# Altium integrated library Analog Devices Data Converters Analog-to-Digital Converters.IntLib: 2404 symbols (part 302 of 346)
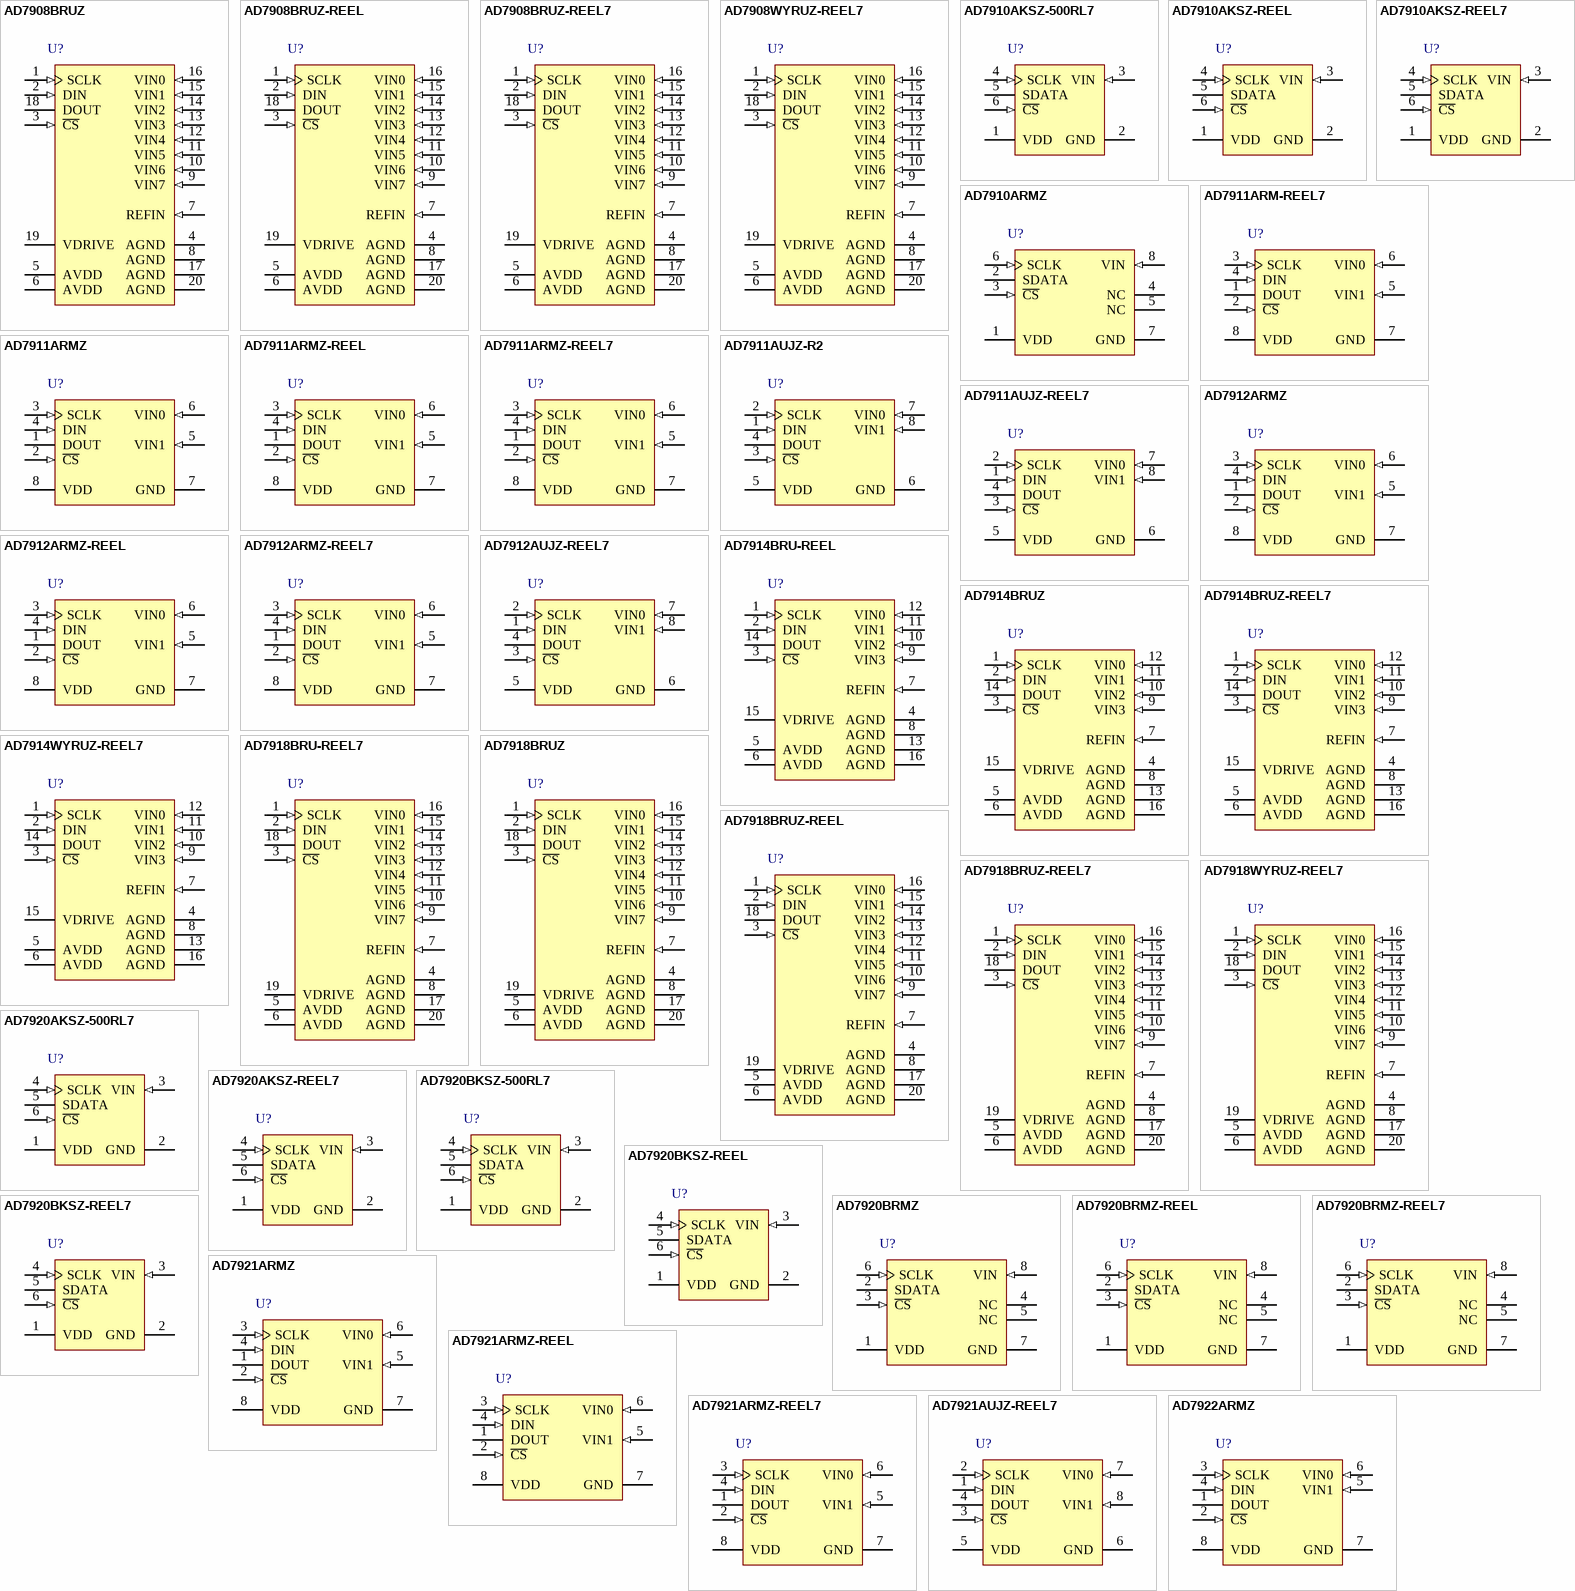
[diagram p416: symbols AD7908BRUZ to AD7922ARMZ]

## AD7908WYRUZ-REEL7
designator U?
Octal 8-Bit Analog-to-Digital Converter with Serial, SPI Interface and Sequencer, 1MSPS, -40 to +125 degC, RU-20, Pb-Free, Reel; Generic Part Number: AD7908; Manufacturer: Analog Devices; PartNumber: AD7908WYRUZ-REEL7; Resolution (Bits): 8; Throughput Rate (SPS): 1M; Interface: Ser, SPI; Automotive Qualified: Yes; DatasheetVersion: Rev.D; PackageVersion: 2000; PackageReference: RU-20; PackageDescription: 20-Lead Thin Shrink Small Outline Package [TSSOP]; Supplier 1: Digi-Key; Supplier Part Number 1: AD7908WYRUZ-REEL7TR-ND; Supplier 2: Digi-Key; Supplier Part Number 2: AD7908WYRUZ-REEL7CT-ND; Supplier 3: Digi-Key; Supplier Part Number 3: AD7908WYRUZ-REEL7DKR-ND; Supplier 4: Mouser; Supplier Part Number 4: 584-AD7908WYRUZ-R7; Channels: 8; RoHS: Y; Packing: Reel; Mounting Technology: Surface Mount; Code_JEDEC: MO-153AC; ComponentLink1Description: Manufacturer URL; ComponentLink1URL: http://www.analog.com/en/index.html; ComponentLink2Description: Datasheet; ComponentLink2URL: http://www.analog.com/static/imported-files/data_sheets/AD7908_7918_7928.pdf; ComponentLink3Description: Package Specification; ComponentLink3URL: http://www.analog.com/static/imported-files/packages/364515793657813558433715854054607941441RU20.pdf; ComponentLink4Description: Product URL; ComponentLink4URL: http://www.analog.com/en/analog-to-digital-converters/ad-converters/ad7908/products/product.html
footprint RU-20_N (TSOP, 20-Leads, Body 6.5x4.4mm, Pitch 0.65mm, IPC Medium Density)
footprint RU-20_L (TSOP, 20-Leads, Body 6.5x4.4mm, Pitch 0.65mm, IPC High Density)
footprint RU-20_M (TSOP, 20-Leads, Body 6.5x4.4mm, Pitch 0.65mm, IPC Low Density)
pins: 1 SCLK (in) "Serial Clock. Logic input. SCLK provides the serial clock for accessing data from the part. This clock input is also used as the clock source for the conversion process of the AD7908/AD7918/AD7928.", 2 DIN (in) "Data In. Logic input. Data to be written to the control register of the  AD7908/AD7918/AD7928 is provided on this input and is clocked into the register on the falling edge of SCLK (see the Control Register section).", 3 ~{CS} (in) "Chip Select. Active low logic input. This input provides the dual function of initiating conversions on the AD7908/AD7918/AD7928, and also frames the serial data transfer.", 4 AGND (power) "Analog Ground. This is the ground reference point for all analog circuitry on the AD7908/AD7918/AD7928. All analog input signals and any external reference signal should be referred to this AGND voltage. All AGND pins should (See Datasheet)", 5 AVDD (power) "Analog Power Supply Input. The AVDD range for the AD7908/AD7918/AD7928 is from 2.7 V to 5.25 V. For the 0 V to 2 x REFIN range, AVDD should be from 4.75 V to 5.25 V.", 6 AVDD (power) "Analog Power Supply Input. The AVDD range for the AD7908/AD7918/AD7928 is from 2.7 V to 5.25 V. For the 0 V to 2 x REFIN range, AVDD should be from 4.75 V to 5.25 V.", 7 REFIN (in) "Reference Input for the AD7908/AD7918/AD7928. An external reference must be applied to this input. The voltage range for the external reference is 2.5 V +/- 1% for specified performance.", 8 AGND (power) "Analog Ground. This is the ground reference point for all analog circuitry on the AD7908/AD7918/AD7928. All analog input signals and any external reference signal should be referred to this AGND voltage. All AGND pins should (See Datasheet)", 9 VIN7 (in) "Analog Input 7. These are eight single-ended analog input channels that are multiplexed into the on-chip track-and-hold. The analog input channel to be converted is selected by using Address Bit ADD2 through Address Bit ADD0 (See Datasheet)", 10 VIN6 (in) "Analog Input 6. These are eight single-ended analog input channels that are multiplexed into the on-chip track-and-hold. The analog input channel to be converted is selected by using Address Bit ADD2 through Address Bit ADD0 (See Datasheet)", 11 VIN5 (in) "Analog Input 5. These are eight single-ended analog input channels that are multiplexed into the on-chip track-and-hold. The analog input channel to be converted is selected by using Address Bit ADD2 through Address Bit ADD0 (See Datasheet)", 12 VIN4 (in) "Analog Input 4. These are eight single-ended analog input channels that are multiplexed into the on-chip track-and-hold. The analog input channel to be converted is selected by using Address Bit ADD2 through Address Bit ADD0 (See Datasheet)", 13 VIN3 (in) "Analog Input 3. These are eight single-ended analog input channels that are multiplexed into the on-chip track-and-hold. The analog input channel to be converted is selected by using Address Bit ADD2 through Address Bit ADD0 (See Datasheet)", 14 VIN2 (in) "Analog Input 2. These are eight single-ended analog input channels that are multiplexed into the on-chip track-and-hold. The analog input channel to be converted is selected by using Address Bit ADD2 through Address Bit ADD0 (See Datasheet)", 15 VIN1 (in) "Analog Input 1. These are eight single-ended analog input channels that are multiplexed into the on-chip track-and-hold. The analog input channel to be converted is selected by using Address Bit ADD2 through Address Bit ADD0 (See Datasheet)", 16 VIN0 (in) "Analog Input 0. These are eight single-ended analog input channels that are multiplexed into the on-chip track-and-hold. The analog input channel to be converted is selected by using Address Bit ADD2 through Address Bit ADD0 (See Datasheet)", 17 AGND (power) "Analog Ground. This is the ground reference point for all analog circuitry on the AD7908/AD7918/AD7928. All analog input signals and any external reference signal should be referred to this AGND voltage. All AGND pins should (See Datasheet)", 18 DOUT (hiz) "Data Out. Logic output. The conversion result from the AD7908/AD7918/AD7928 is provided on this output as a serial data stream. The bits are clocked out on the falling edge of the SCLK input. The data stream from the AD7908 (See Datasheet)", 19 VDRIVE (power) "Logic Power Supply Input. The voltage supplied at this pin determines at what voltage the serial interface of the AD7908/AD7918/AD7928 operates.", 20 AGND (power) "Analog Ground. This is the ground reference point for all analog circuitry on the AD7908/AD7918/AD7928. All analog input signals and any external reference signal should be referred to this AGND voltage. All AGND pins should (See Datasheet)"

## AD7910AKSZ-500RL7
designator U?
Single 10-Bit Analog-to-Digital Converter with Serial, SPI Interface, 250KSPS, -40 to +85 degC, KS6, Pb-Free, Reel; Generic Part Number: AD7910; Manufacturer: Analog Devices; PartNumber: AD7910AKSZ-500RL7; Resolution (Bits): 10; Channels: 1; Throughput Rate (SPS): 250K; Interface: Ser, SPI; DatasheetVersion: Rev.C; PackageVersion: 072809-A; PackageReference: KS-6; PackageDescription: 6-Lead Thin Shrink Small Outline Transistor Package [SC70]; Supplier 1: Digi-Key; Supplier Part Number 1: AD7910AKSZ-500RL7TR-ND; Supplier 2: Digi-Key; Supplier Part Number 2: AD7910AKSZ-500RL7CT-ND; Supplier 3: Digi-Key; Supplier Part Number 3: AD7910AKSZ-500RL7DKR-ND; Supplier 4: Mouser; Supplier Part Number 4: 584-AD7910AKSZ-500R7; RoHS: Y; Packing: Reel; Mounting Technology: Surface Mount; Code_JEDEC: MO-203-AB; ComponentLink1Description: Manufacturer URL; ComponentLink1URL: http://www.analog.com/en/index.html; ComponentLink2Description: Datasheet; ComponentLink2URL: http://www.analog.com/static/imported-files/data_sheets/AD7910_7920.pdf; ComponentLink3Description: Package Specification; ComponentLink3URL: http://www.analog.com/static/imported-files/packages/PKG_PDF/SC70(KS)/KS_6.pdf; ComponentLink4Description: Product URL; ComponentLink4URL: http://www.analog.com/en/analog-to-digital-converters/ad-converters/ad7910/products/product.html
footprint KS-6_N (SOT23, 6-Leads, Body 2x1.3mm, Pitch 0.65mm, Lead Span 2.1mm, IPC Medium Density)
footprint KS-6_L (SOT23, 6-Leads, Body 2x1.3mm, Pitch 0.65mm, Lead Span 2.1mm, IPC High Density)
footprint KS-6_M (SOT23, 6-Leads, Body 2x1.3mm, Pitch 0.65mm, Lead Span 2.1mm, IPC Low Density)
pins: 1 VDD (power) "Power Supply Input. The VDD range for the AD7910/AD7920 is from 2.35 V to 5.25 V.", 2 GND (power) "Analog Ground. Ground reference point for all circuitry on the AD7910/AD7920. All analog input signals should be referred to this GND voltage.", 3 VIN (in) "Analog Input. Single-ended analog input channel. The input range is 0 to VDD.", 4 SCLK (in) "Serial Clock. Logic input. SCLK provides the serial clock for accessing data from the part. This clock input is also used as the clock source for the AD7910/AD7920 conversion process.", 5 SDATA (hiz) "Data Out. Logic output. The conversion result from the AD7910/AD7920 is provided on this output as a serial data stream. The bits are clocked out on the falling edge of the SCLK input. The data stream from the AD7920 (See Datasheet)", 6 ~{CS} (in) "Chip Select. Active low logic input. This input provides the dual function of initiating conversions on the AD7910/AD7920 and framing the serial data transfer."

## AD7910AKSZ-REEL
designator U?
Single 10-Bit Analog-to-Digital Converter with Serial, SPI Interface, 250KSPS, -40 to +85 degC, KS6, Pb-Free, Reel; Generic Part Number: AD7910; Manufacturer: Analog Devices; PartNumber: AD7910AKSZ-REEL; Resolution (Bits): 10; Channels: 1; Throughput Rate (SPS): 250K; Interface: Ser, SPI; DatasheetVersion: Rev.C; PackageVersion: 072809-A; PackageReference: KS-6; PackageDescription: 6-Lead Thin Shrink Small Outline Transistor Package [SC70]; Supplier 1: Digi-Key; Supplier Part Number 1: AD7910AKSZ-REEL-ND; Supplier 2: Mouser; Supplier Part Number 2: 584-AD7910AKSZ-R; RoHS: Y; Packing: Reel; Mounting Technology: Surface Mount; Code_JEDEC: MO-203-AB; ComponentLink1Description: Manufacturer URL; ComponentLink1URL: http://www.analog.com/en/index.html; ComponentLink2Description: Datasheet; ComponentLink2URL: http://www.analog.com/static/imported-files/data_sheets/AD7910_7920.pdf; ComponentLink3Description: Package Specification; ComponentLink3URL: http://www.analog.com/static/imported-files/packages/PKG_PDF/SC70(KS)/KS_6.pdf; ComponentLink4Description: Product URL; ComponentLink4URL: http://www.analog.com/en/analog-to-digital-converters/ad-converters/ad7910/products/product.html
footprint KS-6_N (SOT23, 6-Leads, Body 2x1.3mm, Pitch 0.65mm, Lead Span 2.1mm, IPC Medium Density)
footprint KS-6_L (SOT23, 6-Leads, Body 2x1.3mm, Pitch 0.65mm, Lead Span 2.1mm, IPC High Density)
footprint KS-6_M (SOT23, 6-Leads, Body 2x1.3mm, Pitch 0.65mm, Lead Span 2.1mm, IPC Low Density)
pins: 1 VDD (power) "Power Supply Input. The VDD range for the AD7910/AD7920 is from 2.35 V to 5.25 V.", 2 GND (power) "Analog Ground. Ground reference point for all circuitry on the AD7910/AD7920. All analog input signals should be referred to this GND voltage.", 3 VIN (in) "Analog Input. Single-ended analog input channel. The input range is 0 to VDD.", 4 SCLK (in) "Serial Clock. Logic input. SCLK provides the serial clock for accessing data from the part. This clock input is also used as the clock source for the AD7910/AD7920 conversion process.", 5 SDATA (hiz) "Data Out. Logic output. The conversion result from the AD7910/AD7920 is provided on this output as a serial data stream. The bits are clocked out on the falling edge of the SCLK input. The data stream from the AD7920 (See Datasheet)", 6 ~{CS} (in) "Chip Select. Active low logic input. This input provides the dual function of initiating conversions on the AD7910/AD7920 and framing the serial data transfer."

## AD7910AKSZ-REEL7
designator U?
Single 10-Bit Analog-to-Digital Converter with Serial, SPI Interface, 250KSPS, -40 to +85 degC, KS6, Pb-Free, Reel; Generic Part Number: AD7910; Manufacturer: Analog Devices; PartNumber: AD7910AKSZ-REEL7; Resolution (Bits): 10; Channels: 1; Throughput Rate (SPS): 250K; Interface: Ser, SPI; DatasheetVersion: Rev.C; PackageVersion: 072809-A; PackageReference: KS-6; PackageDescription: 6-Lead Thin Shrink Small Outline Transistor Package [SC70]; Supplier 1: Digi-Key; Supplier Part Number 1: AD7910AKSZ-REEL7TR-ND; Supplier 2: Digi-Key; Supplier Part Number 2: AD7910AKSZ-REEL7CT-ND; Supplier 3: Digi-Key; Supplier Part Number 3: AD7910AKSZ-REEL7DKR-ND; Supplier 4: Mouser; Supplier Part Number 4: 584-AD7910AKSZ-R7; RoHS: Y; Packing: Reel; Mounting Technology: Surface Mount; Code_JEDEC: MO-203-AB; ComponentLink1Description: Manufacturer URL; ComponentLink1URL: http://www.analog.com/en/index.html; ComponentLink2Description: Datasheet; ComponentLink2URL: http://www.analog.com/static/imported-files/data_sheets/AD7910_7920.pdf; ComponentLink3Description: Package Specification; ComponentLink3URL: http://www.analog.com/static/imported-files/packages/PKG_PDF/SC70(KS)/KS_6.pdf; ComponentLink4Description: Product URL; ComponentLink4URL: http://www.analog.com/en/analog-to-digital-converters/ad-converters/ad7910/products/product.html
footprint KS-6_N (SOT23, 6-Leads, Body 2x1.3mm, Pitch 0.65mm, Lead Span 2.1mm, IPC Medium Density)
footprint KS-6_L (SOT23, 6-Leads, Body 2x1.3mm, Pitch 0.65mm, Lead Span 2.1mm, IPC High Density)
footprint KS-6_M (SOT23, 6-Leads, Body 2x1.3mm, Pitch 0.65mm, Lead Span 2.1mm, IPC Low Density)
pins: 1 VDD (power) "Power Supply Input. The VDD range for the AD7910/AD7920 is from 2.35 V to 5.25 V.", 2 GND (power) "Analog Ground. Ground reference point for all circuitry on the AD7910/AD7920. All analog input signals should be referred to this GND voltage.", 3 VIN (in) "Analog Input. Single-ended analog input channel. The input range is 0 to VDD.", 4 SCLK (in) "Serial Clock. Logic input. SCLK provides the serial clock for accessing data from the part. This clock input is also used as the clock source for the AD7910/AD7920 conversion process.", 5 SDATA (hiz) "Data Out. Logic output. The conversion result from the AD7910/AD7920 is provided on this output as a serial data stream. The bits are clocked out on the falling edge of the SCLK input. The data stream from the AD7920 (See Datasheet)", 6 ~{CS} (in) "Chip Select. Active low logic input. This input provides the dual function of initiating conversions on the AD7910/AD7920 and framing the serial data transfer."

## AD7910ARMZ
designator U?
Single 10-Bit Analog-to-Digital Converter with Serial, SPI Interface, 250KSPS, -40 to +85 degC, RM-8, Pb-Free, Tube; Generic Part Number: AD7910; Manufacturer: Analog Devices; PartNumber: AD7910ARMZ; Resolution (Bits): 10; Channels: 1; Throughput Rate (SPS): 250K; Interface: Ser, SPI; DatasheetVersion: Rev.C; PackageVersion: Aug-2005; PackageReference: RM-8; PackageDescription: 8-Lead Mini Small Outline Package [MSOP]; Supplier 1: Digi-Key; Supplier Part Number 1: AD7910ARMZ-ND; Supplier 2: Mouser; Supplier Part Number 2: 584-AD7910ARMZ; RoHS: Y; Packing: Tube; Mounting Technology: Surface Mount; Code_JEDEC: MO-187-AA; ComponentLink1Description: Manufacturer URL; ComponentLink1URL: http://www.analog.com/en/index.html; ComponentLink2Description: Datasheet; ComponentLink2URL: http://www.analog.com/static/imported-files/data_sheets/AD7910_7920.pdf; ComponentLink3Description: Package Specification; ComponentLink3URL: http://www.analog.com/static/imported-files/packages/PKG_PDF/MSOP%28RM%29/RM_8.pdf; ComponentLink4Description: Product URL; ComponentLink4URL: http://www.analog.com/en/analog-to-digital-converters/ad-converters/ad7910/products/product.html
footprint RM-8_N (TSOP, 8-Leads, Body 3x3mm, Pitch 0.65mm, IPC Medium Density)
footprint RM-8_L (TSOP, 8-Leads, Body 3x3mm, Pitch 0.65mm, IPC High Density)
footprint RM-8_M (TSOP, 8-Leads, Body 3x3mm, Pitch 0.65mm, IPC Low Density)
pins: 1 VDD (power) "Power Supply Input. The VDD range for the AD7910/AD7920 is from 2.35 V to 5.25 V.", 2 SDATA (hiz) "Data Out. Logic output. The conversion result from the AD7910/AD7920 is provided on this output as a serial data stream. The bits are clocked out on the falling edge of the SCLK input. The data stream from the AD7920 (See Datasheet)", 3 ~{CS} (in) "Chip Select. Active low logic input. This input provides the dual function of initiating conversions on the AD7910/AD7920 and framing the serial data transfer.", 4 NC "No Connect.", 5 NC "No Connect.", 6 SCLK (in) "Serial Clock. Logic input. SCLK provides the serial clock for accessing data from the part. This clock input is also used as the clock source for the AD7910/AD7920 conversion process.", 7 GND (power) "Analog Ground. Ground reference point for all circuitry on the AD7910/AD7920. All analog input signals should be referred to this GND voltage.", 8 VIN (in) "Analog Input. Single-ended analog input channel. The input range is 0 to VDD."